# Altium footprint library KX-7.PcbLib: 1 footprints
Each footprint in its own frame and in the unit in brackets; x right, y up, seen from the top. Pads: shape width x height; smd on the part's side, far side on the other; paste and mask are expansions set on the pad; w line width, h text height; cw(c..) or ccw(c..) is an arc to the next point about the centre after c.
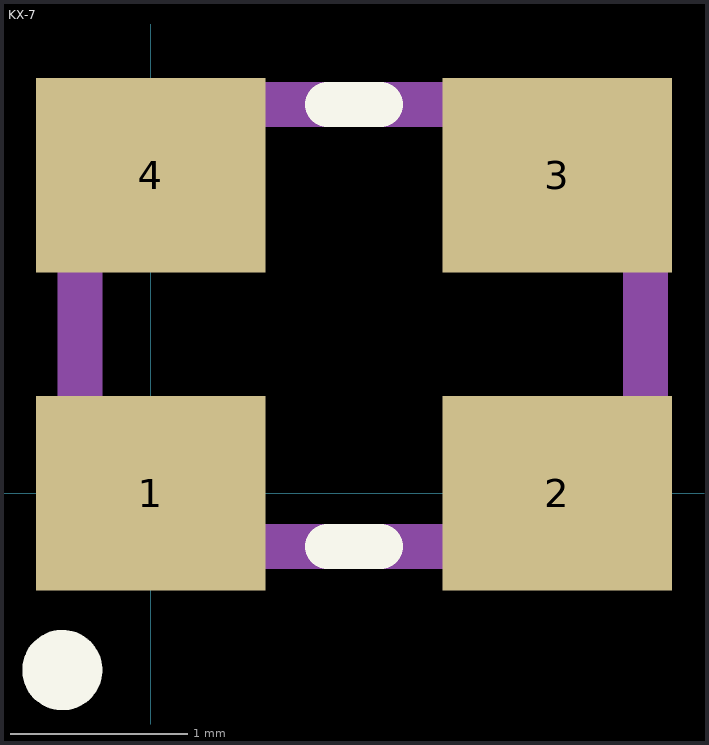
[diagram p0: the footprint, top view; thin cyan lines are the x and y axes]

## KX-7 [mm]
pads (4):
  rect 1.3x1.1 smd: 1(0,0) 2(2.3,0) 3(2.3,1.8) 4(0,1.8)
Top Overlay:
  circle w0.254: c-0.5,-1 r0.1
  lines w0.254: 1,-0.3 1.3,-0.3 ; 1,2.2 1.3,2.2
TopAssy:
  lines w0.254: -0.4,-0.3 2.8,-0.3 2.8,2.2 -0.4,2.2 -0.4,-0.3
3D body "User Library-GeyerElectronics_KX7.step": height 0.81, standoff 0, extent -0.407,-0.35 2.807,2.15